# EAGLE library part CI1104M1VR0-NH (library CI1104M1VR0-NH)
Connector Header Surface Mount 4 position 0.039" (1.00mm) Source: Datasheet <https://www.cvilux.com/uploads/drawings/100/224/CI1152S.pdf>
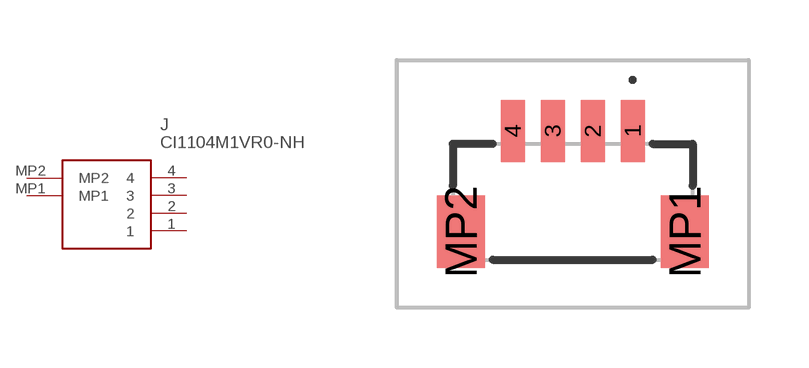
[diagram p0: symbol with the pads of CI1104M1VR0NH; footprint CI1104M1VR0NH]

Designator prefix J

## CI1104M1VR0-NH (Description: Connector Header Surface Mount 4 position 0.039" (1.00mm); Height: 5.1mm; Manufacturer_Name: CivLux; Manufacturer_Part_Number: CI1104M1VR0-NH)  [CI1104M1VR0NH]
1  1
2  2
3  3
4  4
MP1  MP1
MP2  MP2

## Footprint CI1104M1VR0NH (pad centres in mm)
CI1104M1VR0-NH-2
smd 0.6 x 1.55: 1 1.5,1.775; 2 0.5,1.775; 3 -0.5,1.775; 4 -1.5,1.775
smd 1.2 x 1.8: MP1 2.8,-0.75; MP2 -2.8,-0.75